# EAGLE library part SIM7000G (library SpatMuy2022)
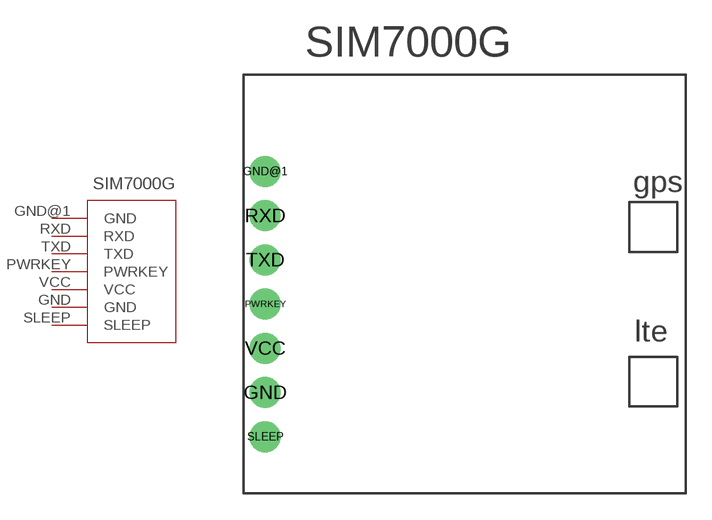
[diagram p5: symbol with the pads of SIM7000G; footprint SIM7000G]

Designator prefix -

## SIM7000G  [SIM7000G]
GND  GND
GND@1  GND
PWRKEY  PWRKEY
RXD  RXD
SLEEP  SLEEP
TXD  TXD
VCC  VCC

## Footprint SIM7000G (pad centres in mm)
drill 0.9 pad 1.778: GND 0,-7.62; GND@1 0,5.08; PWRKEY 0,-2.54; RXD 0,2.54; SLEEP 0,-10.16; TXD 0,0; VCC 0,-5.08